# Altium schematic symbol library Symbol.SchLib: 68 symbols (part 2 of 2)
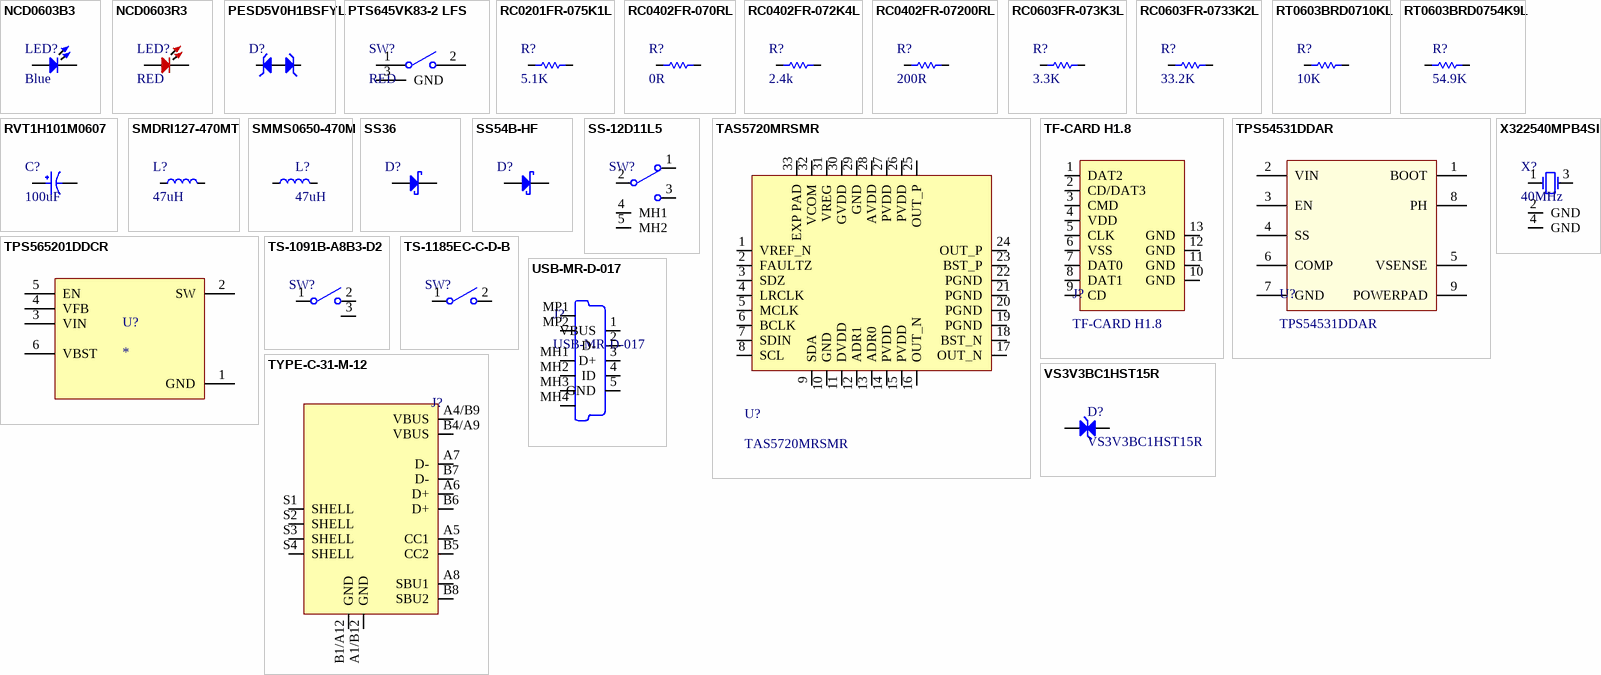
[diagram p2: symbols NCD0603B3 to X322540MPB4SI]

## RC0402FR-07200RL
designator R?, comment 200R
RES 200 OHM 1% 1/16W 0402; Manufacturer: Yageo; Manufacturer Part Number: RC0402FR-07200RL; Temperature Coefficient: 100ppm/°C; Power Rating: 63mW; Voltage Rating (DC): 50V; Supplier 1: Digi-Key; RoHS: Yes; Category: Chip SMD Resistors; Stock 1: 19778; Pricing 1: 1=0.10000, 10=0.01600, 100=0.00660, 1000=0.00299, 2500=0.00259, 5000=0.00214 (USD); Case/Package: 0402; Case Code (Metric): 1005; Case Code (Imperial): 0402; Size Code: 0402; Min Operating Temperature: -55°C; Max Operating Temperature: 155°C; Tolerance: 1%; Resistance: 200R; Resistor Type: Thick Film; Packaging: Tape and Reel; Voltage Rating: 50V; Package Quantity: 1; Number of Terminations: 2; Termination: SMD/SMT; Max Power Dissipation: 63mW; Features: Moisture Resistant; Series: RC; Construction: Rectangular; Resistance Tolerance: 1%; Length: 1mm; Width: 0.02inch; Height: 0.016inch; Depth: 0.5mm; REACH SVHC: No SVHC; Lead Free: Lead Free; RoHS Compliant: Yes; Military Standard: Not; ComponentLink1URL: https://datasheet.ciiva.com/2553/pyu-r-int-thick-7-2553232.pdf?src-supplier=Digi-Key; ComponentLink1Description: https://datasheet.ciiva.com/2553/pyu-r-int-thick-7-2553232.pdf?src-supplier=Digi-Key; ComponentLink2URL: https://datasheet.ciiva.com/7983/1018594-7983509.pdf?src-supplier=Element14; ComponentLink2Description: https://datasheet.ciiva.com/7983/1018594-7983509.pdf?src-supplier=Element14; ComponentLink3URL: https://datasheet.ciiva.com/16804/pyu-rc0402-51-rohs-l-6-r-16804406.pdf?src-supplier=Future+Electronics; ComponentLink3Description: https://datasheet.ciiva.com/16804/pyu-rc0402-51-rohs-l-6-r-16804406.pdf?src-supplier=Future+Electronics; ComponentLink4URL: https://datasheet.ciiva.com/15189/getdatasheetpartid-331152-15189383.pdf?src-supplier=Verical; ComponentLink4Description: https://datasheet.ciiva.com/15189/getdatasheetpartid-331152-15189383.pdf?src-supplier=Verical; ComponentLink5URL: https://datasheet.ciiva.com/7849/1018594-7849898.pdf?src-supplier=Element14; ComponentLink5Description: https://datasheet.ciiva.com/7849/1018594-7849898.pdf?src-supplier=Element14; ComponentLink6URL: https://datasheet.ciiva.com/5562/pyu-rc0402-51-rohs-l-6-r-8721-5562539.pdf?src-supplier=Mouser; ComponentLink6Description: https://datasheet.ciiva.com/5562/pyu-rc0402-51-rohs-l-6-r-8721-5562539.pdf?src-supplier=Mouser; ComponentLink7URL: https://datasheet.ciiva.com/7849/1018594-7849899.pdf?src-supplier=Element14; ComponentLink7Description: https://datasheet.ciiva.com/7849/1018594-7849899.pdf?src-supplier=Element14; ComponentLink8URL: https://datasheet.ciiva.com/2553/pyu-r-int-thick-7-2553230.pdf?src-supplier=Digi-Key; ComponentLink8Description: https://datasheet.ciiva.com/2553/pyu-r-int-thick-7-2553230.pdf?src-supplier=Digi-Key; ComponentLink9URL: https://datasheet.ciiva.com/2553/pyu-r-int-thick-7-2553231.pdf?src-supplier=Digi-Key; ComponentLink9Description: https://datasheet.ciiva.com/2553/pyu-r-int-thick-7-2553231.pdf?src-supplier=Digi-Key; Supplier Part Number 1: 311-200LRCT-ND; LCSC Part Number: C114764
footprint Res-0402
pins: 1, 2

## RC0603FR-073K3L
designator R?, comment 3.3K
RES SMD 3.3K OHM 1% 1/10W 0603; Manufacturer: Yageo Phycomp; Manufacturer Part Number: RC0603FR-073K3L; Temperature Coefficient: 100ppm/°C; Resistance: 3.3kR; Voltage Rating (DC): 50V; Power Rating: 100mW; Item Type: Resistor; Supplier 1: Digi-Key; Stock 1: 6863000; Pricing 1: 1=0.1, 10=0.024, 100=0.0097, 1000=0.00437, 2500=0.00379 (USD); Mount: Surface Mount; Case/Package: 0603; Number of Pins: 2; Min Operating Temperature: -55°C; Max Operating Temperature: 155°C; Tolerance: 1%; Packaging: Cut Tape; Length: 1.6mm; Height: 0.45mm; Width: 800um; Depth: 0.8mm; REACH SVHC: No SVHC; Lead Free: Lead Free; Supplier Part Number 1: 311-3.30KHRCT-ND; LCSC Part Number: C108078
footprint Res-0603
pins: 1, 2

## RC0603FR-0733K2L
designator R?, comment 33.2K
RES 33.2K OHM 1% 1/10W 0603; Manufacturer: Yageo; Manufacturer Part Number: RC0603FR-0733K2L; Resistance: 33.2kR; Power Rating: 100mW; Voltage Rating: 50V; Temperature Coefficient: 100ppm/°C; Supplier 1: Digi-Key; RoHS: Yes; Category: Chip SMD Resistors; Stock 1: 1293262; Pricing 1: 1=0.10000, 10=0.02300, 100=0.00930, 1000=0.00417, 2500=0.00362 (USD); Mount: Surface Mount; Case/Package: 0603; Case Code (Imperial): 0603; Case Code (Metric): 1608; Size Code: 0603; Min Operating Temperature: -55°C; Max Operating Temperature: 155°C; Tolerance: 1%; Packaging: Tape and Reel; Termination: SMD/SMT; Resistor Type: Thick Film; Voltage Rating (DC): 50V; Features: Moisture Resistant; Series: RC; Max Power Dissipation: 100mW; Number of Terminations: 2; Construction: Rectangular; Technology: THICK FILM; Length: 1.6mm; Height: 0.45mm; Depth: 0.8mm; Military Standard: Not; Lead Free: Lead Free; RoHS Compliant: Yes; ComponentLink1URL: https://datasheet.ciiva.com/11808/0900766b80f96399-11808316.pdf?src-supplier=RSComponents; ComponentLink1Description: https://datasheet.ciiva.com/11808/0900766b80f96399-11808316.pdf?src-supplier=RSComponents; Supplier Part Number 1: 311-33.2KHRCT-ND; LCSC Part Number: C185338
footprint Res-0603
pins: 1, 2

## RT0603BRD0710KL
designator R?, comment 10K
RES SMD 10K OHM 0.1% 1/10W 0603; Manufacturer: Yageo; Manufacturer Part Number: RT0603BRD0710KL; Power: 100mW; Rated Temperature: 70°C; Value: 10kR; Temperature Coefficient: 25ppm/°C; Working Voltage: 75V; Package Height: 0.45mm; Package Length: 1.6mm; Package Width: 0.8mm; Item Type: Resistor; Supplier 1: Rs; RoHS: Yes; Category: Chip SMD Resistors; Stock 1: 20510; Pricing 1: 100=0.29800, 250=0.27800, 500=0.25900, 1000=0.23700 (GBP); Mounting Technology: Surface Mount; Pins: 2; Case/Package: 0603; Min Operating Temperature: -55°C; Max Operating Temperature: 155°C; Tolerance: 0.1%; Resistor Type: FIXED RESISTOR; Construction: Chip; Package Style: SMTMeter; Packaging: Tape and Reel; Technology: THIN FILM; Termination: Wraparound; Reach SVHC Compliant: Yes; RoHS Compliant: Yes; ComponentLink1URL: https://datasheet.ciiva.com:443/pdfs/VipMasterIC/IC/YAGO/YAGO-S-A0008510989/YAGO-S-A0008510989-1.pdf?src-supplier=IHS+Markit; ComponentLink1Description: https://datasheet.ciiva.com:443/pdfs/VipMasterIC/IC/YAGO/YAGO-S-A0008510989/YAGO-S-A0008510989-1.pdf?src-supplier=IHS+Markit; ComponentLink2URL: https://datasheet.ciiva.com/5624/pyu-rt-1-to-0-05-rohs-l-4-5624351.pdf?src-supplier=Mouser; ComponentLink2Description: https://datasheet.ciiva.com/5624/pyu-rt-1-to-0-05-rohs-l-4-5624351.pdf?src-supplier=Mouser; ComponentLink3URL: https://datasheet.ciiva.com/29721/pyu-rt-1-to-0-05-rohs-l-4-29721177.pdf?src-supplier=Digi-Key; ComponentLink3Description: https://datasheet.ciiva.com/29721/pyu-rt-1-to-0-05-rohs-l-4-29721177.pdf?src-supplier=Digi-Key; Supplier Part Number 1: 1991391P; LCSC Part Number: C95204
footprint Res-0603
pins: 1, 2

## RT0603BRD0754K9L
designator R?, comment 54.9K
100mW Thin Film Resistor 75V ±25ppm/℃ ±0.1% 54.9kΩ 0603 Chip Resistor - Surface Mount ROHS; Manufacturer: YAGEO; Manufacturer Part Number: RT0603BRD0754K9L; LCSC Part Number: C728593; Item Type: Resistor; Package: 0603
footprint Res-0603
pins: 1, 2

## RVT1H101M0607
designator C?, comment 100uF
100uF 50V ±20% SMD,D6.3xL7.7mm Aluminum Electrolytic Capacitors - SMD ROHS; Manufacturer: ROQANG; Manufacturer Part Number: RVT1H101M0607; Package: SMD,D6.3xL7.7mm; LCSC Part Number: C3151829; Item Type: Capacitor; ComponentLink1Description: LCSC; ComponentLink1URL: https://www.lcsc.com/product-detail/Aluminum-Electrolytic-Capacitors-SMD_ROQANG-RVT1H101M0607_C3151829.html
footprint RVT1H101M0607
pins: 1, 2

## SMDRI127-470MT
designator L?, comment 47uH
2.5A 47uH ±20% SMD Power Inductors ROHS; Manufacturer: SXN(Shun Xiang Nuo Elec); Manufacturer Part Number: SMDRI127-470MT; Package: SMD; LCSC Part Number: C9906; Item Type: Inductor; ComponentLink1Description: LCSC; ComponentLink1URL: https://www.lcsc.com/product-detail/Power-Inductors_SXN-Shun-Xiang-Nuo-Elec-SMDRI127-470MT_C9906.html
footprint SMDRI127-470MT
pins: 1, 2

## SMMS0650-470M
designator L?, comment 47uH
2A 47uH Molding Choke ±20% 2.8A SMD,6.6x7.1mm Power Inductors ROHS; Manufacturer: SXN(Shun Xiang Nuo Elec); Manufacturer Part Number: SMMS0650-470M; LCSC Part Number: C149588; Item Type: Inductor; Package: SMD,6.6x7.1mm; ComponentLink1Description: LCSC Link; ComponentLink1URL: https://www.lcsc.com/product-detail/Power-Inductors_SXN-Shun-Xiang-Nuo-Elec-SMMS0650-470M_C149588.html
footprint SMMS0650-470M
pins: 1, 2

## SS36
designator D?
Schottky Barrier Diode SK36, DO-214AB, 3A/60V; Manufacturer: ON Semiconductor / Fairchild; Manufacturer Part Number: SS36; Output Current: 3A; Element Configuration: Single; Forward Voltage: 750mV; Max Repetitive Reverse Voltage (Vrrm): 60V; Max Forward Surge Current (Ifsm): 100A; Max Reverse Current: 500uA; Polarity: Standard; Power Dissipation: 2.27W; Supplier 1: Rs; RoHS: Yes; Category: Schottky Diodes; Stock 1: 100; Pricing 1: 100=0.43800, 500=0.34200, 1000=0.27800, 3000=0.25000 (GBP); Mount: Surface Mount; Case/Package: SMC; Number of Pins: 2; Min Operating Temperature: -55°C; Max Operating Temperature: 150°C; Packaging: Tape and Reel; Package Quantity: 3000; Series: -; Forward Current: 3A; Peak Non-Repetitive Surge Current: 100A; Voltage Rating (DC): 60V; Current Rating: 3A; Max Surge Current: 100A; Average Rectified Current: 3A; Max Reverse Leakage Current: 500uA; Max Reverse Voltage (DC): 60V; Current: 3A; Voltage: 60V; Radiation Hardening: No; RoHS Compliant: Yes; Reach SVHC Compliant: Yes; Lead Free: Lead Free; ComponentLink1URL: https://datasheet.ciiva.com/4714/ss36-197193-4714610.pdf?src-supplier=Mouser; ComponentLink1Description: https://datasheet.ciiva.com/4714/ss36-197193-4714610.pdf?src-supplier=Mouser; ComponentLink2URL: https://datasheet.ciiva.com/16889/ss36-16889545.pdf?src-supplier=Future+Electronics; ComponentLink2Description: https://datasheet.ciiva.com/16889/ss36-16889545.pdf?src-supplier=Future+Electronics; ComponentLink3URL: https://datasheet.ciiva.com/920/ss34-920433.pdf?src-supplier=Digi-Key; ComponentLink3Description: https://datasheet.ciiva.com/920/ss34-920433.pdf?src-supplier=Digi-Key; ComponentLink4URL: https://datasheet.ciiva.com/920/ss34-920434.pdf?src-supplier=Digi-Key; ComponentLink4Description: https://datasheet.ciiva.com/920/ss34-920434.pdf?src-supplier=Digi-Key; ComponentLink5URL: https://datasheet.ciiva.com/920/ss34-920435.pdf?src-supplier=Digi-Key; ComponentLink5Description: https://datasheet.ciiva.com/920/ss34-920435.pdf?src-supplier=Digi-Key; Supplier Part Number 1: 9034425P; LCSC Part Number: C16015; Item Type: Diode
footprint SMA
pins: 1 K, 2 A

## SS54B-HF
designator D?
DIODE SCHOTTKY 5A 40V SMB; Manufacturer: Comchip; Manufacturer Part Number: SS54B-HF; Supplier 1: Mouser; RoHS: No; Stock 1: 2862; Pricing 1: 1=0.56000, 10=0.32900, 50=0.32900, 100=0.17100, 1000=0.11900, 10000=0.09000 (USD); Supplier Part Number 1: 750-SS54B-HF; LCSC Part Number: C3759253
footprint SMB_
pins: 1 A, 2 K

## SS-12D11L5
designator SW?
Lying 3A SPDT 125V 6.3mm 13.5mm 125V 6.6mm 3A PCPin 10000 Rectangular columnar -40℃~+85℃ Black Plugin Slide Switches ROHS; Manufacturer: XKB Connectivity; Manufacturer Part Number: SS-12D11L5; Item Type: Switch; Package: Plugin; LCSC Part Number: C319010; ComponentLink1Description: LCSC Part Number; ComponentLink1URL: https://www.lcsc.com/product-detail/Slide-Switches_XKB-Connectivity-SS-12D11L5_C319010.html
footprint SS-12D11L5
pins: 1, 2, 3, 4 MH1, 5 MH2

## TAS5720MRSMR
designator U?
20Wx1@4Ω VQFN-32(4x4) Audio Power OpAmps ROHS; Manufacturer: Texas Instruments; Item Type: Audio Amp; Manufacturer Part number: TAS5720MRSMR; LCSC Part Number: C5214961; ComponentLink1Description: LCSC Link; ComponentLink1URL: https://www.lcsc.com/product-detail/Audio-Power-OpAmps_Texas-Instruments-TAS5720MRSMR_C5214961.html; Package: VQFN-32(4x4)
footprint TAS5720M
pins: 1 VREF_N, 2 FAULTZ, 3 SDZ, 4 LRCLK, 5 MCLK, 6 BCLK, 7 SDIN, 8 SCL, 9 SDA, 10 GND, 11 DVDD, 12 ADR1, 13 ADR0, 14 PVDD, 15 PVDD, 16 OUT_N, 17 OUT_N, 18 BST_N, 19 PGND, 20 PGND, 21 PGND, 22 PGND, 23 BST_P, 24 OUT_P, 25 OUT_P, 26 PVDD, 27 PVDD, 28 AVDD, 29 GND, 30 GVDD, 31 VREG, 32 VCOM, 33 EXP PAD

## TF-CARD H1.8
designator J?
-40℃~+70℃ 1.8mm Gold Deck MicroSD card (TF card) Copper Alloy Self bomb SMD SD Card Connectors ROHS; Manufacturer: SHOU HAN; Item: SD Card; Manufacturer Part Number: TF-CARD H1.8; LCSC Part Number: C7529389; Package: SMD; ComponentLink1Description: LCSC Link; ComponentLink1URL: https://www.lcsc.com/product-detail/SD-Card-Connectors_SHOU-HAN-TF-CARD-H1-8_C7529389.html
footprint TF-CARD H1.8
pins: 1 DAT2, 2 CD/DAT3, 3 CMD, 4 VDD, 5 CLK, 6 VSS, 7 DAT0, 8 DAT1, 9 CD, 10 GND, 11 GND, 12 GND, 13 GND

## TPS54531DDAR
designator U?
3.5V to 28V Input, 5A, 570kHz Step-Down Converter with Eco-mode 8-SO PowerPAD -40 to 85; MF: Texas Instruments; MP: TPS54531DDAR; Check_prices: https://www.snapeda.com/parts/TPS54531DDAR/Texas%20Instruments/view-part/476481/?ref=eda; Price: None; SnapEDA_Link: https://www.snapeda.com/parts/TPS54531DDAR/Texas%20Instruments/view-part/476481/?ref=snap; Package: HSOIC-8 Texas Instruments; Value: *; Purchase-URL: https://pricing.snapeda.com/search/part/TPS54531DDAR/?ref=eda; Availability: Warning; ComponentLink1Description: LCSC; ComponentLink1URL: https://www.lcsc.com/product-detail/DC-DC-Converters_Texas-Instruments-TPS54531DDAR_C50605.html
footprint CONV_TPS54531DDAR
pins: 1 BOOT, 2 VIN, 3 EN, 4 SS, 5 VSENSE, 6 COMP, 7 GND, 8 PH, 9 POWERPAD

## TPS565201DDCR
designator U?
4.5V to 17V, 5A, Synchronous Step-Down Voltage Regulator in SOT23 6-SOT-23-THIN -40 to 125; MP: TPS565201DDCR; MF: Texas Instruments; Availability: Warning; Texas_Instruments-Purchase-URL: https://snapeda.com/shop?store=Texas+Instruments&id=2751914; Package: SOT-23-THN-6 Texas Instruments; DigiKey-Purchase-URL: https://snapeda.com/shop?store=DigiKey&id=2751914; SnapEDA_Link: https://www.snapeda.com/parts/TPS565201DDCR/Texas%20Instruments/view-part/2751914/?ref=snap; Mouser-Purchase-URL: https://snapeda.com/shop?store=Mouser&id=2751914; Value: *; Price: None; Manufacturer: Texas Instruments; Manufacturer Part Number: TPS565201DDCR; LCSC Part Number: C327676
footprint TPS565201DDCR
pins: 1 GND (power), 2 SW (power), 3 VIN (power), 4 VFB (oe), 5 EN (oe), 6 VBST (oe)

## TS-1091B-A8B3-D2
designator SW?
NO Lying SPST 250gf@±30gf Plugin Tactile Switches ROHS; Manufacturer: Yuandi; Manufacturer Part Number: TS-1091B-A8B3-D2; Package: Plugin; LCSC Part Number: C557914; Item Type: Tactile Switch; ComponentLink1Description: LCSC; ComponentLink1URL: https://www.lcsc.com/product-detail/Tactile-Switches_Yuandi-TS-1091B-A8B3-D2_C557914.html
footprint TS-1091B-A8B3-D2
pins: 1, 2, 3

## TS-1185EC-C-D-B
designator SW?
3mm 2mm Round Button 50mA Top3.65mm SPST 12V SMD Tactile Switches; Manufacturer: XKB; Manufacturer Part Number: TS-1185EC-C-D-B; Footprint: Custom; ComponentLink1Description: LCSC; ComponentLink1URL: https://lcsc.com/product-detail/Tactile-Switches_XKB-Connectivity-TS-1185EC-C-D-B_C318893.html; LCSC Part Number: C318893
footprint TS-1185EC-C-D-B_
pins: 1, 2

## TYPE-C-31-M-12
designator J?
250mA 1 16 Female Type-C SMD USB Connectors ROHS; Manufacturer: Korean Hroparts Elec; Manufacturer Part Number: TYPE-C-31-M-12; ComponentLink1Description: LCSC; ComponentLink1URL: https://www.lcsc.com/product-detail/USB-Connectors_Korean-Hroparts-Elec-TYPE-C-31-M-12_C165948.html; Footprint: Custom; LCSC Part Number: C165948; Item Type: USB Connector
footprint TYPE-C-31-M-12_
pins: A1/B12 GND (power), A4/B9 VBUS (power), A5 CC1, A6 D+, A7 D-, A8 SBU1, B1/A12 GND (power), B4/A9 VBUS (power), B5 CC2, B6 D+, B7 D-, B8 SBU2, S1 SHELL, S2 SHELL, S3 SHELL, S4 SHELL

## USB-MR-D-017
designator J?
2A 1 Surface Mount 5P Female Micro-B SMD USB Connectors ROHS; Manufacturer: DEALON; Manufacture Part no: USB-MR-D-017; Package: SMD; LCSC Part no: C2926988; Item Type: USB; ComponentLink1Description: LCSC; ComponentLink1URL: https://www.lcsc.com/product-detail/span-style-background-color-ff0-USB-span-Connectors_DEALON-USB-MR-D-017_C2926988.html
footprint USB-MR-D-017
pins: 1 VBUS, 2 D- "USB Data - [White]", 3 D+ "USB Data + [Green]", 4 ID, 5 GND, MH1 Tab "Shell", MH2 Tab "Shell", MH3 Tab "Shell", MH4 Tab "Shell", MP1 Tab "Shell", MP2 Tab "Shell"

## VS3V3BC1HST15R
designator D?
8.5V 70W 4V 3.3V SOD-962 Electrostatic and Surge Protection (TVS/ESD) ROHS; Manufacturer: Rohm Semiconductor; Item Type: TVS; Manufacturer Part Number: VS3V3BC1HST15R; LCSC Part Number: VS3V3BC1HST15R; Package: SOD-962; ComponentLink1Description: LCSC Link; ComponentLink1URL: https://www.lcsc.com/product-detail/Electrostatic-and-Surge-Protection-TVS-ESD_ROHM-Semicon-VS3V3BC1HST15R_C509714.html
footprint VS3V3BC1HST15R
pins: 1 A, 2 A

## X322540MPB4SI
designator X?, comment 40MHz
40MHz SMD Crystal Resonator 15pF SMD3225-4P Crystals ROHS; Manufacturer: Yangxing Tech; Manufacturer Part Number: X322540MPB4SI; Value: 40MHZ; LCSC Part Number: C9010; ComponentLink1Description: LCSC; ComponentLink1URL: https://www.lcsc.com/product-detail/Crystals_Yangxing-Tech-X322540MPB4SI_C9010.html; Item Type: Crystal
footprint X322540MPB4SI_
pins: 1 CRYSTAL, 2 GND, 3 CRYSTAL, 4 GND